# Altium schematic symbol library Sensor Card.SchLib: 2 symbols
Pins are listed as number, name and electrical type; pins without a type are passive.

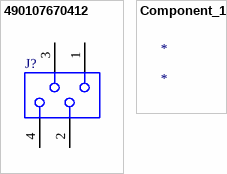
[diagram p0: symbols 490107670412 to Component_1]

## 490107670412
designator J?
WR-WST REDFIT IDC SKEDD, pitch 2.54mm, 4pins; Part Number: 490107670412; Pin Number: 4; Rated Current: 1A; Working Voltage: 100V(AC); Contact Resistance max.: 10mOhm; Gender: Transition; ComponentLink1Description: Manufacturer; ComponentLink1URL: http://www.we-online.de; ComponentLink2Description: Datasheet; ComponentLink2URL: https://katalog.we-online.com/em/datasheet/490107670412.pdf; Published Date: November 2019; Publisher: Wurth Elektronik; Pitch: 2.54mm; Operating Temperature: -25 to +105degC; Mounting Technology: Press-In; Packaging: Tube
footprint 490107670412_Debugging Application
footprint 490107670412_Permanent Application
footprint 490107670412_Debugging Application (REDFIT IDC SKEDD Connector, pitch 2.54mm, 4p)
pins: 1, 2, 3, 4

## Component_1
designator *